# EAGLE library part SN74LVC125APWR (library NetGeeks)
QUADRUPLE BUS BUFFER GATE WITH 3-STATE OUTPUTS Source: Datasheet <http://www.ti.com/lit/gpn/sn74lvc125a>
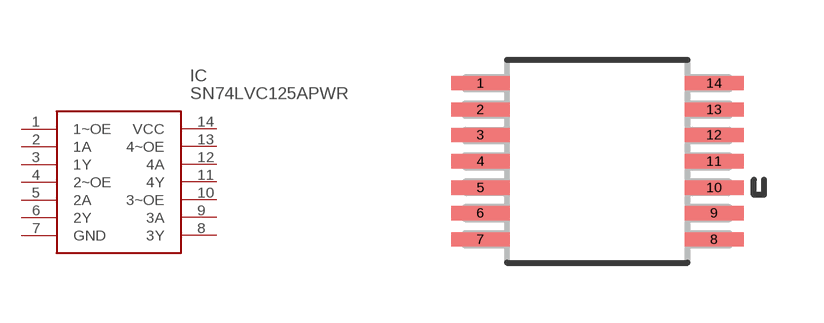
[diagram p8: symbol with the pads of SOP65P640X120-14N; footprint SOP65P640X120-14N]

Designator prefix IC

## SN74LVC125APWR (Arrow_Part_Number: SN74LVC125APWR; Arrow_Price/Stock: https://www.arrow.com/en/products/sn74lvc125apwr/texas-instruments; Description: QUADRUPLE BUS BUFFER GATE WITH 3-STATE OUTPUTS; Height: mm; Manufacturer_Name: Texas Instruments; Manufacturer_Part_Number: SN74LVC125APWR; RS_Part_Number: 0526729; RS_Price/Stock: http://uk.rs-online.com/web/p/products/0526729)  [SOP65P640X120-14N]
1  1~OE
2  1A
3  1Y
4  2~OE
5  2A
6  2Y
7  GND
8  3Y
9  3A
10  3~OE
11  4Y
12  4A
13  4~OE
14  VCC

## Footprint SOP65P640X120-14N (pad centres in mm)
SOP65P640X120-14N
smd 1.473 x 0.356: 1 -2.921,1.956; 2 -2.921,1.295; 3 -2.921,0.66; 4 -2.921,0; 5 -2.921,-0.66; 6 -2.921,-1.295; 7 -2.921,-1.956; 8 2.921,-1.956; 9 2.921,-1.295; 10 2.921,-0.66; 11 2.921,0; 12 2.921,0.66; 13 2.921,1.295; 14 2.921,1.956